# EAGLE library part AP9101CK6-CQTRG1 (library AP9101CK6-CQTRG1)
None
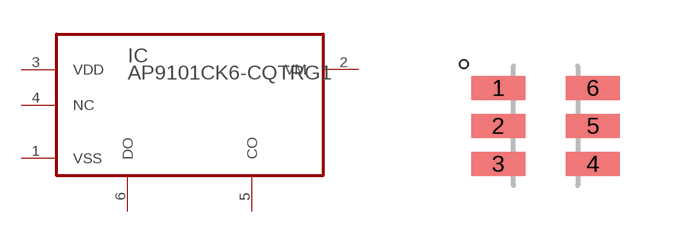
[diagram p0: symbol with the pads of SOT95P280X140-6N; footprint SOT95P280X140-6N]

Designator prefix IC

## AP9101CK6-CQTRG1 (AVAILABILITY: Unavailable; DESCRIPTION: Battery Battery Protection IC Lithium Ion/Polymer SOT-26; MF: Diodes Inc.; MP: AP9101CK6-CQTRG1; PACKAGE: SOT-23 Diodes Inc.; PRICE: None)  [SOT95P280X140-6N]
1  VSS  in
2  VM  in
3  VDD  in
4  NC  nc
5  CO  in
6  DO  in

## Footprint SOT95P280X140-6N (pad centres in mm)
smd 1.35 x 0.6: 1 -1.185,0.95; 2 -1.185,0; 3 -1.185,-0.95; 4 1.185,-0.95; 5 1.185,0; 6 1.185,0.95